# Altium schematic symbol library TESEO-LIV4FTR.SchLib: 1 symbol
Pins are listed as number, name and electrical type; pins without a type are passive.

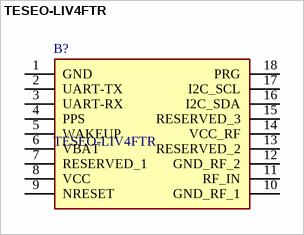
[diagram p0: symbol TESEO-LIV4FTR]

## TESEO-LIV4FTR
designator B?
Tiny dual-band GNSS low power and measurement engine modules; Manufacturer_Name: STMicroelectronics; Geometry.Height: 2.3mm; Manufacturer_Part_Number: TESEO-LIV4FTR; Mouser Part Number: 511-TESEO-LIV4FTR; Mouser Price/Stock: https://www.mouser.co.uk/ProductDetail/STMicroelectronics/TESEO-LIV4FTR?qs=By6Nw2ByBD3%252BjjBvGBu5LQ%3D%3D; Arrow Part Number: TESEO-LIV4FTR; Arrow Price/Stock: https://www.arrow.com/en/products/teseo-liv4ftr/stmicroelectronics?utm_currency=USD&region=nac; Datasheet Link: https://www.st.com/resource/en/datasheet/teseo-liv4f.pdf
footprint TESEOLIV4FTR
pins: 1 GND, 2 UART-TX, 3 UART-RX, 4 PPS, 5 WAKEUP, 6 VBAT, 7 RESERVED_1, 8 VCC, 9 NRESET, 10 GND_RF_1, 11 RF_IN, 12 GND_RF_2, 13 RESERVED_2, 14 VCC_RF, 15 RESERVED_3, 16 I2C_SDA, 17 I2C_SCL, 18 PRG